# EAGLE library part TSC2004IRTJR (library 2023-12-13_09-05-15_Library)
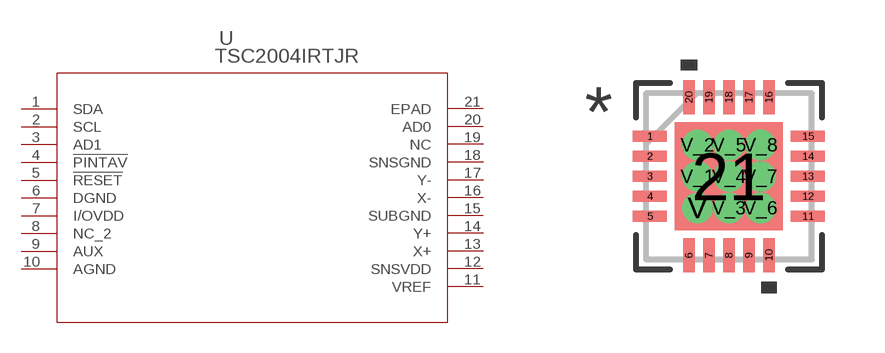
[diagram p0: symbol with the pads of RTJ20_2P7X2P7; footprint RTJ20_2P7X2P7]

Designator prefix U

## TSC2004IRTJRRTJ20_2P7X2P7 (Copyright: Copyright (C) 2023 Ultra Librarian. All rights reserved.; Manufacturer_Part_Number: TSC2004IRTJR; Mfr_Name: Texas Instruments)  [RTJ20_2P7X2P7]
1  SDA
2  SCL  in
3  AD1  in
4  !PINTAV  out
5  !RESET  in
6  DGND  pwr
7  I/OVDD  pwr
8  NC_2  pas
9  AUX  in
10  AGND  pwr
11  VREF  in
12  SNSVDD  pwr
13  X+  in
14  Y+  in
15  SUBGND  pwr
16  X-  in
17  Y-  in
18  SNSGND  pwr
19  NC  pas
20  AD0  in
21  EPAD  pas

## Footprint RTJ20_2P7X2P7 (pad centres in mm)
smd 0.85 x 0.28: 1 -1.975,1; 2 -1.975,0.5; 3 -1.975,0; 4 -1.975,-0.5; 5 -1.975,-1; 11 1.975,-1; 12 1.975,-0.5; 13 1.975,0; 14 1.975,0.5; 15 1.975,1
smd 0.28 x 0.85: 6 -1,-1.975; 7 -0.5,-1.975; 8 0,-1.975; 9 0.5,-1.975; 10 1,-1.975; 16 1,1.975; 17 0.5,1.975; 18 0,1.975; 19 -0.5,1.975; 20 -1,1.975
smd 2.7 x 2.7: 21 0,0
drill 0.254 pad 0.508 round: V -0.787,-0.787; V_1 -0.787,0; V_2 -0.787,0.787; V_3 0,-0.787; V_4 0,0; V_5 0,0.787; V_6 0.787,-0.787; V_7 0.787,0; V_8 0.787,0.787